# Altium schematic symbol library Nucleo.SchLib: 1 symbol
Pins are listed as number, name and electrical type; pins without a type are passive.

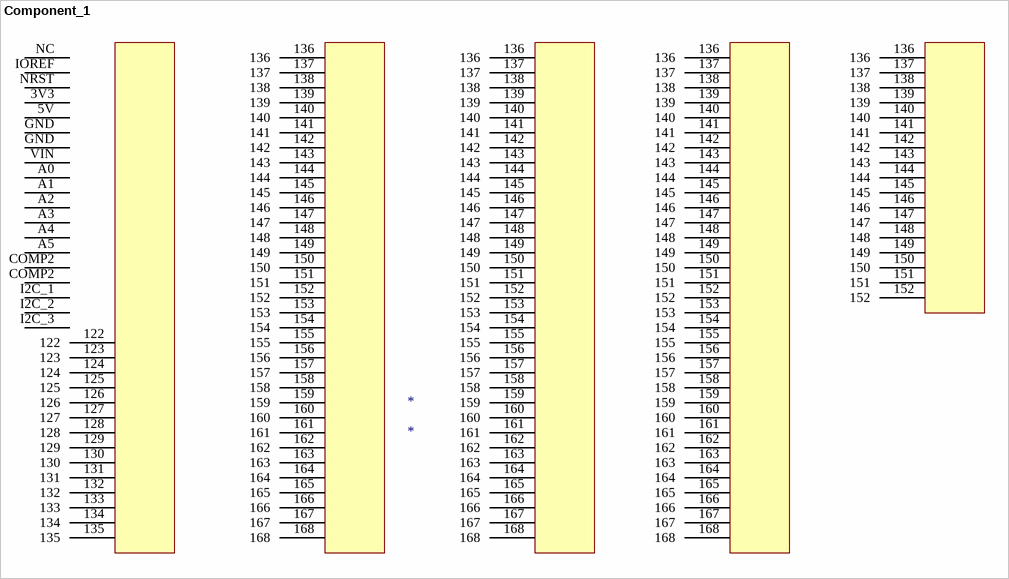
[diagram p0: symbol Component_1]

## Component_1
designator *
pins: 3V3, 5V, 122, 123, 124, 125, 126, 127, 128, 129, 130, 131, 132, 133, 134, 135, 136, 136, 136, 136, 137, 137, 137, 137, 138, 138, 138, 138, 139, 139, 139, 139, 140, 140, 140, 140, 141, 141, 141, 141, 142, 142, 142, 142, 143, 143, 143, 143, 144, 144, 144, 144, 145, 145, 145, 145, 146, 146, 146, 146, 147, 147, 147, 147, 148, 148, 148, 148, 149, 149, 149, 149, 150, 150, 150, 150, 151, 151, 151, 151, 152, 152, 152, 152, 153, 153, 153, 154, 154, 154, 155, 155, 155, 156, 156, 156, 157, 157, 157, 158, 158, 158, 159, 159, 159, 160, 160, 160, 161, 161, 161, 162, 162, 162, 163, 163, 163, 164, 164, 164, 165, 165, 165, 166, 166, 166, 167, 167, 167, 168, 168, 168, A0, A1, A2, A3, A4, A5, COMP2 COMP1, COMP2, GND, GND, I2C_1, I2C_2, I2C_3, IOREF, NC, NRST, VIN